# EAGLE library part VICOR_MAXI_DCDC (library UBCSolar)
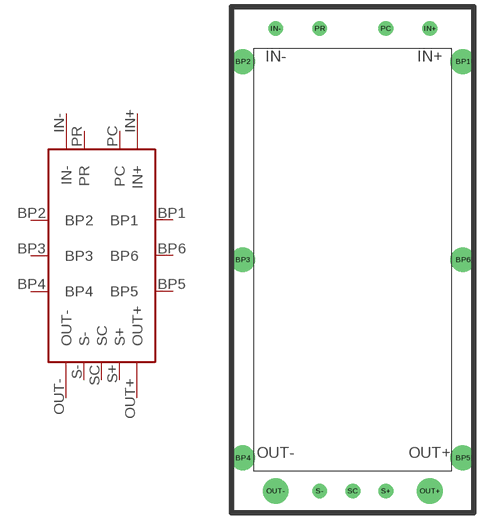
[diagram p12: symbol with the pads of VICOR_MAXI_DCDC; footprint VICOR_MAXI_DCDC]

Designator prefix -

## VICOR_MAXI_DCDC  [VICOR_MAXI_DCDC]
BP1  BP1
BP2  BP2
BP3  BP3
BP4  BP4
BP5  BP5
BP6  BP6
IN+  IN+
IN-  IN-
OUT+  OUT+
OUT-  OUT-
PC  PC
PR  PR
S+  S+
S-  S-
SC  SC

## Footprint VICOR_MAXI_DCDC (pad centres in mm)
Vicor Maxi DCDC Converter, 110V->12V, 33A http://cdn.vicorpower.com/documents/datasheets/ds_110vin-maxi-family.pdf
drill 3.264 pad 5.715: BP1 25.4,45.72; BP2 -25.4,45.72; BP3 -25.4,0; BP4 -25.4,-45.72; BP5 25.4,-45.72; BP6 25.4,0
drill 2.388: IN+ 17.78,53.34; IN- -17.78,53.34; PC 7.62,53.34; PR -7.62,53.34; S+ 7.62,-53.34; S- -7.62,-53.34; SC 0,-53.34
drill 4.928: OUT+ 17.78,-53.34; OUT- -17.78,-53.34